# EAGLE library part NF-TRF2 (library Trafo)
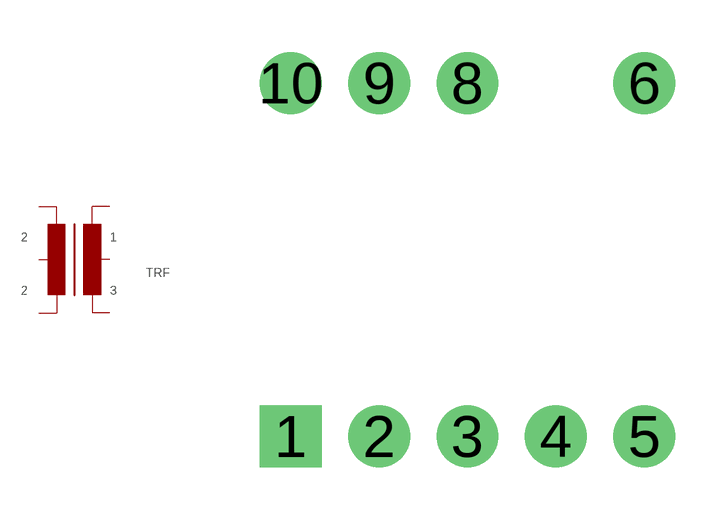
[diagram p1: symbol with the pads of NF-TRF2; footprint NF-TRF2]

Designator prefix TRF

## NF-TRF2  [NF-TRF2]
2  2
3  3
4  4
8  8
9  9
10  10

## Footprint NF-TRF2 (pad centres in mm)
drill 1 pad 1.778 square: 1 -5.08,-5.08
drill 1 pad 1.778: 2 -2.54,-5.08; 3 0,-5.08; 4 2.54,-5.08; 5 5.08,-5.08; 6 5.08,5.08; 8 0,5.08; 9 -2.54,5.08; 10 -5.08,5.08